# Altium integrated library power managment.IntLib: 4 symbols
Pins are listed as number, name and electrical type; pins without a type are passive.

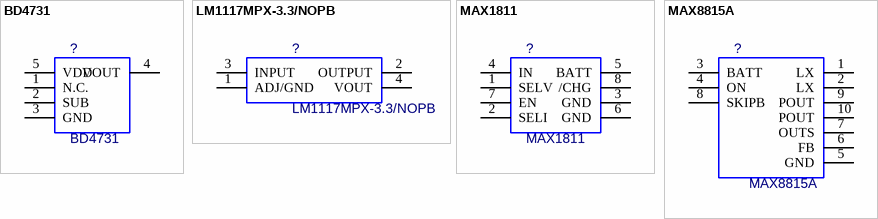
[diagram p0: symbols BD4731 to MAX8815A]

## BD4731
designator ?
Value: *
footprint SOP23-5
pins: 1 N.C., 2 SUB, 3 GND, 4 VOUT, 5 VDD

## LM1117MPX-3.3/NOPB
designator ?
Value: *
footprint SOT-223
pins: 1 ADJ/GND, 2 OUTPUT, 3 INPUT, 4 VOUT

## MAX1811
designator ?
Value: *
footprint SOP-8
pins: 1 SELV, 2 SELI, 3 GND, 4 IN, 5 BATT, 6 GND, 7 EN, 8 /CHG

## MAX8815A
designator ?
Value: *
footprint MAX_TDFN _10
pins: 1 LX, 2 LX, 3 BATT, 4 ON, 5 GND, 6 FB, 7 OUTS, 8 SKIPB, 9 POUT, 10 POUT